# EAGLE library part MICROSD-MOLEX (library user)
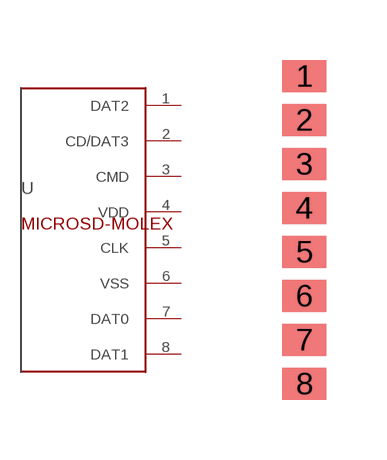
[diagram p1: symbol with the pads of MICROSD-MOLEX; footprint MICROSD-MOLEX]

Designator prefix -

## MICROSD-MOLEX  [MICROSD-MOLEX]
1  DAT2
2  CD/DAT3
3  CMD
4  VDD
5  CLK
6  VSS
7  DAT0
8  DAT1

## Footprint MICROSD-MOLEX (pad centres in mm)
smd 1.1 x 0.8: 1 0,0; 2 0,-1.1; 3 0,-2.2; 4 0,-3.3; 5 0,-4.4; 6 0,-5.5; 7 0,-6.6; 8 0,-7.7